# EAGLE library part LILYGO-T-CALL-V1.4 (library fablab_uchile)
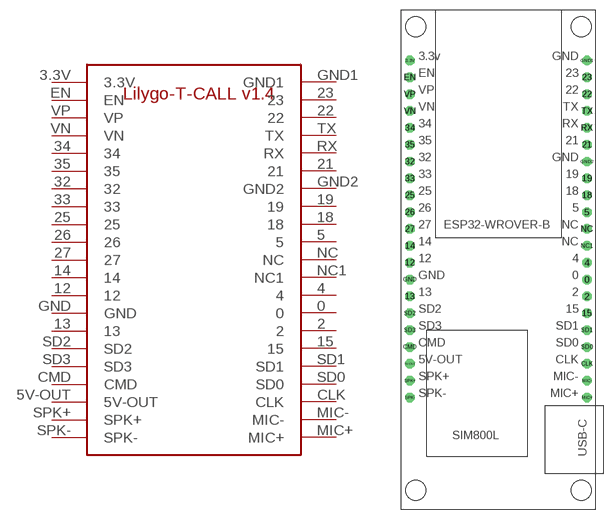
[diagram p7: symbol with the pads of LILYGO-T-CALL-V1.4; footprint LILYGO-T-CALL-V1.4]

Designator prefix -

## LILYGO-T-CALL-V1.4  [LILYGO-T-CALL-V1.4]
0  0
2  2
3.3V  3.3V
4  4
5  5
5V-OUT  5V-OUT
12  12
13  13
14  14
15  15
18  18
19  19
21  21
22  22
23  23
25  25
26  26
27  27
32  32
33  33
34  34
35  35
CLK  CLK
CMD  CMD
EN  EN
GND  GND
GND1  GND1
GND2  GND2
MIC+  MIC+
MIC-  MIC-
NC  NC
NC1  NC1
RX  RX
SD0  SD0
SD1  SD1
SD2  SD2
SD3  SD3
SPK+  SPK+
SPK-  SPK-
TX  TX
VN  VN
VP  VP

## Footprint LILYGO-T-CALL-V1.4 (pad centres in mm)
drill 0.8 pad 1.422 octagon: 0 13.97,-12.7; 2 13.97,-15.24; 3.3V -12.7,20.32; 4 13.97,-10.16; 5 13.97,-2.54; 5V-OUT -12.7,-25.4; 12 -12.7,-10.16; 13 -12.7,-15.24; 14 -12.7,-7.62; 15 13.97,-17.78; 18 13.97,0; 19 13.97,2.54; 21 13.97,7.62; 22 13.97,15.24; 23 13.97,17.78; 25 -12.7,0; 26 -12.7,-2.54; 27 -12.7,-5.08; 32 -12.7,5.08; 33 -12.7,2.54; 34 -12.7,10.16; 35 -12.7,7.62; CLK 13.97,-25.4; CMD -12.7,-22.86; EN -12.7,17.78; GND -12.7,-12.7; GND1 13.97,20.32; GND2 13.97,5.08; MIC+ 13.97,-30.48; MIC- 13.97,-27.94; NC 13.97,-5.08; NC1 13.97,-7.62; RX 13.97,10.16; SD0 13.97,-22.86; SD1 13.97,-20.32; SD2 -12.7,-17.78; SD3 -12.7,-20.32; SPK+ -12.7,-27.94; SPK- -12.7,-30.48; TX 13.97,12.7; VN -12.7,12.7; VP -12.7,15.24
hole 3 at -11.811,25.4
hole 3 at 13.081,25.4
hole 3 at -11.811,-44.45
hole 3 at 13.081,-44.45